# Altium integrated library JST-GH.IntLib: 2 symbols
Pins are listed as number, name and electrical type; pins without a type are passive.

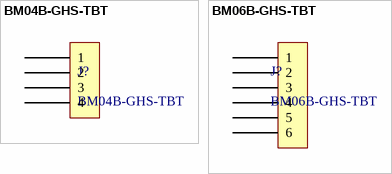
[diagram p0: symbols BM04B-GHS-TBT to BM06B-GHS-TBT]

## BM04B-GHS-TBT
designator J?
JST GH top entry SMD connector; Supplier 1: Farnell; Supplier Part Number 1: 1516208
footprint BM04B-GHS-TBT (Vertical)
pins: 1, 2, 3, 4

## BM06B-GHS-TBT
designator J?
JST GH top entry SMD connector; Supplier 1: Digi-Key; Supplier Part Number 1: 455-1582-1-ND
footprint BM06B-GHS-TBT (Vertical)
pins: 1, 2, 3, 4, 5, 6